# Altium footprint library TZJLIB.PcbLib: 76 footprints (part 3 of 5)
Each footprint in its own frame and in the unit in brackets; x right, y up, seen from the top. Pads: shape width x height; smd on the part's side, far side on the other; paste and mask are expansions set on the pad; w line width, h text height; cw(c..) or ccw(c..) is an arc to the next point about the centre after c.
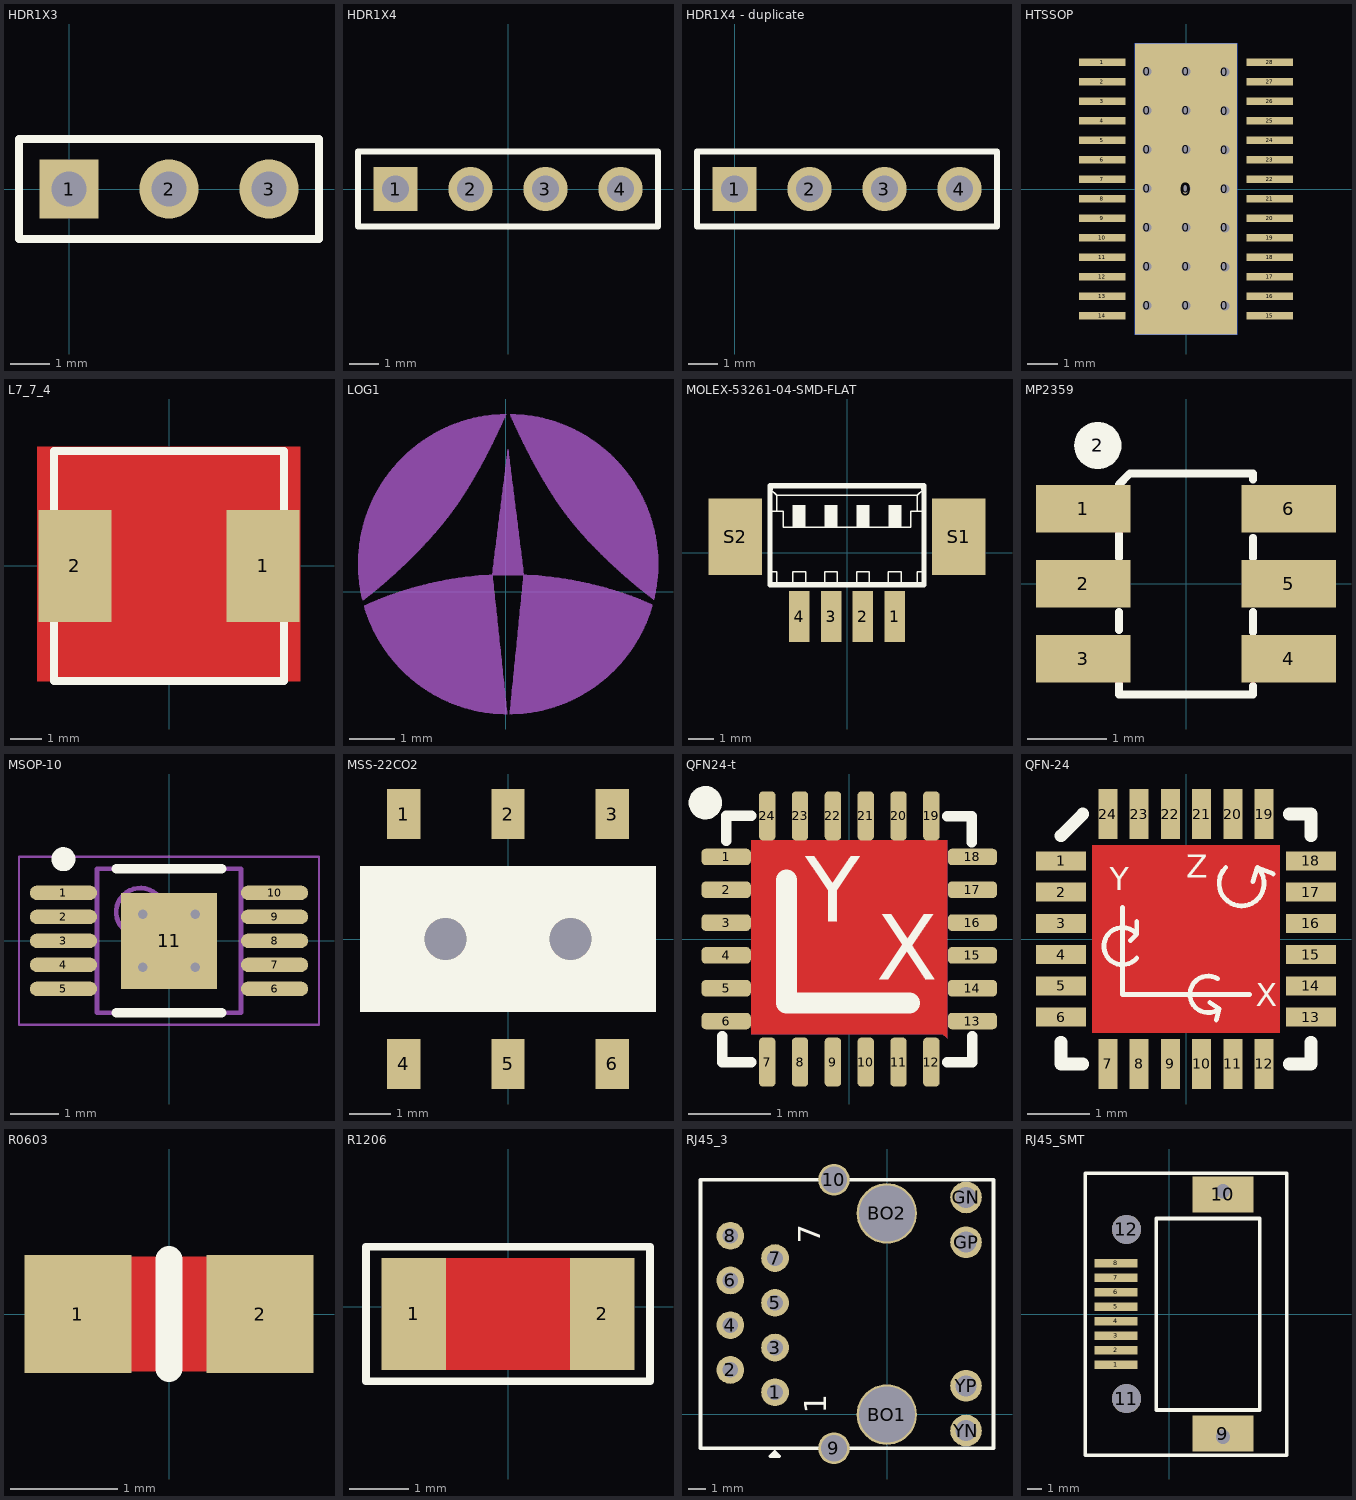
[diagram p2: the footprints below, top view; thin cyan lines are the x and y axes]

## HDR1X3 [mm] "Connector; Header; 3 Position"
pads (3):
  rect 1.5x1.5 hole 0.9: 1(0,0)
  round 1.5 hole 0.9: 2(2.54,0) 3(5.08,0)
Top Overlay:
  lines w0.2: -1.27,-1.27 -1.27,1.27 6.35,1.27 6.35,-1.27 -1.27,-1.27

## HDR1X4 [mm] "Connector; Header; 4 Position"
pads (4):
  rect 1.5x1.5 hole 0.9: 1(-3.81,0)
  round 1.5 hole 0.9: 2(-1.27,0) 3(1.27,0) 4(3.81,0)
Top Overlay:
  lines w0.2: -5.08,-1.27 5.08,-1.27 5.08,1.27 -5.08,1.27 -5.08,-1.27

## HDR1X4 - duplicate [mm] "Connector; Header; 4 Position"
pads (4):
  rect 1.5x1.5 hole 0.9: 1(0,0)
  round 1.5 hole 0.9: 2(2.54,0) 3(5.08,0) 4(7.62,0)
Top Overlay:
  lines w0.2: -1.27,-1.27 -1.27,1.27 8.89,1.27 8.89,-1.27 -1.27,-1.27

## HTSSOP [mm]
pads (51):
  round 0.5 hole 0.3: 0(-1.295,-3.888) 0(-1.295,-2.588) 0(-1.295,-1.288) 0(-1.295,0.012) 0(-1.295,1.312) 0(-1.295,2.612) 0(-1.295,3.912) 0(0,-3.888) 0(0,-2.588) 0(0,-1.288) 0(0,0.012) 0(0,1.312) 0(0,2.612) 0(0,3.912) 0(1.3,-3.9) 0(1.3,-2.6) 0(1.3,-1.3) 0(1.3,0) 0(1.3,1.3) 0(1.3,2.6) 0(1.3,3.9)
  rect 3.4x9.7 smd: 0(0,0)
  rect 3.4x9.7 smd far side: 0(0,0)
  rect 1.55x0.25 smd: 1(-2.794,4.225) 2(-2.794,3.575) 3(-2.794,2.925) 4(-2.794,2.275) 5(-2.794,1.625) 6(-2.794,0.975) 7(-2.794,0.325) 8(-2.794,-0.325) 9(-2.794,-0.975) 10(-2.794,-1.625) 11(-2.794,-2.275) 12(-2.794,-2.925) 13(-2.794,-3.575) 14(-2.794,-4.225) 15(2.794,-4.225) 16(2.794,-3.575) 17(2.794,-2.925) 18(2.794,-2.275) 19(2.794,-1.625) 20(2.794,-0.975) 21(2.794,-0.325) 22(2.794,0.325) 23(2.794,0.975) 24(2.794,1.625) 25(2.794,2.275) 26(2.794,2.925) 27(2.794,3.575) 28(2.794,4.225)

## L7_7_4 [mm]
pads (2):
  rect 2.35x3.6 smd: 1(3.025,0) 2(-3.025,0)
Top Layer:
  pour cut-out: -4.242,3.835 -4.242,-3.708 4.216,-3.708 4.216,3.835
Top Overlay:
  lines w0.254: -3.7,-3.7 3.7,-3.7 3.7,3.7 -3.7,3.7 -3.7,-3.7

## LOG1 [mm]
height 0.8
Bottom Overlay:
  drawing of 2244 lines, arcs and shapes, not listed

## MOLEX-53261-04-SMD-FLAT [mm] "MOLEX-53261-04-SMD-FLAT"
pads (6):
  rect 0.8x2 smd: 1(1.875,-2.5) 2(0.625,-2.5) 3(-0.625,-2.5) 4(-1.875,-2.5)
  rect 2.1x3 smd: S1(4.375,0.625) S2(-4.375,0.625)
Top Overlay:
  rectangle: -2.125,1 -1.625,1.875
  rectangle: -0.875,1 -0.375,1.875
  rectangle: 0.375,1 0.875,1.875
  rectangle: 1.625,1 2.125,1.875
  lines w0.051: -2.998,2.498 -2.75,2.25 ; -2.996,-0.75 -2.75,-0.75 -2.75,-1.248 ; -2.996,1.625 -2.75,1.625 ; -2.125,-1.25 -2.125,-0.75 -1.625,-0.75 -1.625,-1.25 ; -0.875,-1.25 -0.875,-0.75 -0.375,-0.75 -0.375,-1.25 ; 0.375,-1.25 0.375,-0.75 0.875,-0.75 0.875,-1.25 ; 1.625,-1.25 1.625,-0.75 2.125,-0.75 2.125,-1.25 ; 2.75,-1.248 2.75,-0.75 2.996,-0.75 ; 2.996,1.625 2.75,1.625 ; 2.998,2.498 2.75,2.25 ; -2.75,1.625 -2.5,1.625 -2.5,1 2.5,1 2.5,1.625 2.75,1.625 ; -2.75,1.625 -2.75,2.25 ; -2.75,2.25 2.75,2.25 ; 2.75,1.625 2.75,2.25
  lines w0.203: -2.998,2.498 -3.021,2.625 ; 2.998,2.498 3.021,2.625 ; -3.021,2.625 3.021,2.625 ; -3.021,2.625 -3.021,-1.248 -2.75,-1.248 2.75,-1.248 3.021,-1.248 3.021,2.625

## MP2359 [mm]
pads (7):
  rect 1.2x0.6 smd: 1(-1.3,0.95) 2(-1.3,0) 3(-1.3,-0.95) 4(1.3,-0.95) 5(1.3,0) 6(1.3,0.95)
  round 0.6 on Top Overlay: 2(-1.118,1.753)
Top Overlay:
  lines w0.1: -0.85,-1.27 -0.85,-1.4 0.85,-1.4 0.85,-1.295 ; -0.85,-0.584 -0.85,-0.356 ; -0.85,0.33 -0.85,0.635 ; -0.85,1.258 -0.711,1.397 -0.559,1.397 -0.556,1.4 0.85,1.4 0.85,1.321 ; 0.85,-0.61 0.85,-0.356 ; 0.85,0.33 0.85,0.584

## MSOP-10 [mm] "TSSOP, 10-Leads, Body 3.00x3.00mm, Pitch 0.50mm, Thermal Pad 2.00x2.00mm, IPC Medium Density"
height 1.11
pads (11):
  oval 1.4x0.3 smd: 1(-2.2,1) 2(-2.2,0.5) 3(-2.2,0) 4(-2.2,-0.5) 5(-2.2,-1) 6(2.2,-1) 7(2.2,-0.5) 8(2.2,0) 9(2.2,0.5) 10(2.2,1)
  rect 2x2 smd: 11(0,0)
via -0.55,0.55 diameter 0.5 hole 0.2
via 0.55,0.55 diameter 0.5 hole 0.2
via -0.55,-0.55 diameter 0.5 hole 0.2
via 0.55,-0.55 diameter 0.5 hole 0.2
Top Overlay:
  circle w0.25: c-2.2,1.7 r0.125
  lines w0.2: -1.1,-1.5 1.1,-1.5 ; -1.1,1.5 1.1,1.5
Mechanical 13:
  circle w0.1: c-0.6,0.6 r0.5
  lines w0.1: -1.5,-1.5 -1.5,1.5 1.5,1.5 1.5,-1.5 -1.5,-1.5
Mechanical 15:
  lines w0.05: -3.125,-1.75 -3.125,1.75 3.125,1.75 3.125,-1.75 -3.125,-1.75
  lines w0.1: -0.5,0 0.5,0 ; 0,-0.5 0,0.5
3D body "TSSOP50P490X111_HS-11N.step": height 1.11, standoff 0, extent -2.45,-1.5 2.45,1.5

## MSS-22CO2 [mm]
pads (6):
  rect 0.8x1.2 smd: 1(-2.5,3) 2(0,3) 3(2.5,3) 4(-2.5,-3) 5(0,-3) 6(2.5,-3)
via -1.5,0 diameter 1 hole 1
via 1.5,0 diameter 1 hole 1
Top Overlay:
  rectangle: -3.55,-1.75 3.55,1.75

## QFN24-t [mm]
pads (24):
  rrect50% 0.6x0.2 smd: 1(-1.5,1) 2(-1.5,0.6) 3(-1.5,0.2) 4(-1.5,-0.2) 5(-1.5,-0.6) 6(-1.5,-1) 13(1.5,-1) 14(1.5,-0.6) 15(1.5,-0.2) 16(1.5,0.2) 17(1.5,0.6) 18(1.5,1)
  rrect50% 0.2x0.6 smd: 7(-1,-1.5) 8(-0.6,-1.5) 9(-0.2,-1.5) 10(0.2,-1.5) 11(0.6,-1.5) 12(1,-1.5) 19(1,1.5) 20(0.6,1.5) 21(0.2,1.5) 22(-0.2,1.5) 23(-0.6,1.5) 24(-1,1.5)
Top Layer:
  pour cut-out: -1.195,1.203 1.192,1.203 1.192,-1.21 1.142,-1.159 -1.195,-1.159
Bottom Layer:
  pour cut-out: -1.195,1.203 1.192,1.203 1.192,-1.21 1.142,-1.159 -1.195,-1.159
Top Overlay:
  circle w0.203: c-1.754,1.66 r0.102
  lines w0.127: -1.547,-1.184 -1.547,-1.5 -1.195,-1.5 ; -1.5,1.199 -1.5,1.5 -1.195,1.5 ; 1.192,-1.5 1.5,-1.5 1.5,-1.184 ; 1.192,1.495 1.493,1.495 ; 1.493,1.178 1.493,1.483
  lines w0.254: -0.763,0.721 -0.763,0.467 -0.763,-0.778 0.735,-0.778
  text "X" at 0.329,-0.499 h0.8
  text "Y" at -0.535,0.213 h0.8

## QFN-24 [mm] "QFN-24"
pads (24):
  rect 0.8x0.3 smd: 1(-2,1.25) 2(-2,0.75) 3(-2,0.25) 4(-2,-0.25) 5(-2,-0.75) 6(-2,-1.25) 13(2,-1.25) 14(2,-0.75) 15(2,-0.25) 16(2,0.25) 17(2,0.75) 18(2,1.25)
  rect 0.3x0.8 smd: 7(-1.25,-2) 8(-0.75,-2) 9(-0.25,-2) 10(0.25,-2) 11(0.75,-2) 12(1.25,-2) 19(1.25,2) 20(0.75,2) 21(0.25,2) 22(-0.25,2) 23(-0.75,2) 24(-1.25,2)
Top Layer:
  rectangle: -0.5,-0.5 0.5,0.5
  pour cut-out: -1.499,1.499 -1.499,-1.499 1.499,-1.499 1.499,1.499
Top Overlay:
  lines w0.076: -1.016,0.508 -1.016,-0.889 1.016,-0.889 ; -0.889,-0.025 -0.787,0.076 ; -0.787,-0.305 cw(c-1.016,-0.114) -0.787,0.076 ; -0.787,0.279 -0.787,0.076 ; 0.381,-1.016 0.533,-1.118 ; 0.483,-1.295 0.533,-1.118 ; 0.508,-0.635 ccw(c0.356,-0.885) 0.533,-1.118 ; 0.635,1.143 ccw(c0.889,0.889) 1.143,1.143 ; 1.067,0.914 1.143,1.143 ; 1.397,1.041 1.143,1.143
  lines w0.203: -2,-1.65 -2,-2 -1.65,-2 ; -2,1.65 -1.65,2 ; 1.65,-2 2,-2 2,-1.65 ; 1.65,2 2,2 2,1.65
  text "Z" at 0,0.864 h0.63
  text "Y" at -1.219,0.66 h0.63
  text "X" at 1.118,-1.194 h0.63
Top Solder:
  rectangle: -0.5,-0.5 0.5,0.5

## R0603 [mm] "R0603"
pads (2):
  rect 1x1.1 smd: 1(-0.85,0) 2(0.85,0)
Top Layer:
  pour cut-out: -0.356,0.533 -0.356,-0.533 0.356,-0.533 0.356,0.533
Top Overlay:
  lines w0.254: 0,-0.508 0,0.508
Mechanical 6:
  rectangle: -0.2,-0.4 0.2,0.4

## R1206 [mm]
height 0.8
pads (2):
  rect 1.1x1.9 smd: 1(-1.6,-0.127) 2(1.6,-0.127)
Top Layer:
  pour cut-out: -1.05,0.823 1.05,0.823 1.05,-1.077 -1.05,-1.077
Top Overlay:
  lines w0.13: -2.413,-1.271 -2.413,1.016 2.413,1.016 2.413,-1.27 -2.413,-1.27

## RJ45_3 [mil]
pads (16):
  round 62 hole 35: 1(-250.62,49.5) 2(-350.62,99.5) 3(-250.62,149.5) 4(-350.62,199.5) 5(-250.62,249.5) 6(-350.62,299.5) 7(-250.62,349.5) 8(-350.62,399.5)
  round 70.87 hole 59.06: 9(-118.73,-75.5) 10(-118.73,524.5)
  round 135 hole 125: BO1(-0.62,-0.5) BO2(-0.62,449.5)
  round 70.87 hole 47.24: GN(176.54,485.13) GP(176.54,385.13) YN(176.54,-36.13) YP(176.54,63.87)
Top Overlay:
  lines w8: -417.29,-75.5 -417.29,524.5 238,524.5 238,-75.5 -417.29,-75.5 ; -261.39,-94.04 -246.39,-94.04 -241.39,-94.04 -251.39,-84.04 -261.39,-94.04
  text "1" at -136.5,1.66 h50
  text "7" at -149.56,381.95 h50

## RJ45_SMT [mm]
pads (14):
  rect 3x0.6 smd: 1(-3.768,-3.57) 2(-3.768,-2.55) 3(-3.768,-1.53) 4(-3.768,-0.51) 5(-3.768,0.51) 6(-3.768,1.53) 7(-3.768,2.55) 8(-3.768,3.57)
  rect 4.3x2.55 smd: 9(3.768,-8.425) 10(3.768,8.425)
  round 2.05 hole 2.05: 11(-3.032,-5.97) 12(-3.032,5.97)
  round 1 hole 1 mask+0.102: ""(3.768,-8.65) ""(3.768,8.65)
Top Overlay:
  lines w0.254: -5.932,-9.97 -5.932,9.93 8.268,9.93 8.268,-9.97 -5.932,-9.97 ; -0.932,-6.77 6.368,-6.77 6.368,6.73 -0.932,6.73 -0.932,-5.87 -0.932,-6.77
3D body "SW3dPS-RJ45 SMT 440209 AMP.STEP": height 8.99, standoff -2.5, extent -3.99,-9.23 9.31,9.21